# Altium footprint library fuelCell_PCB.PcbLib: 9 footprints
Each footprint in its own frame and in the unit in brackets; x right, y up, seen from the top. Pads: shape width x height; smd on the part's side, far side on the other; paste and mask are expansions set on the pad; w line width, h text height; cw(c..) or ccw(c..) is an arc to the next point about the centre after c.
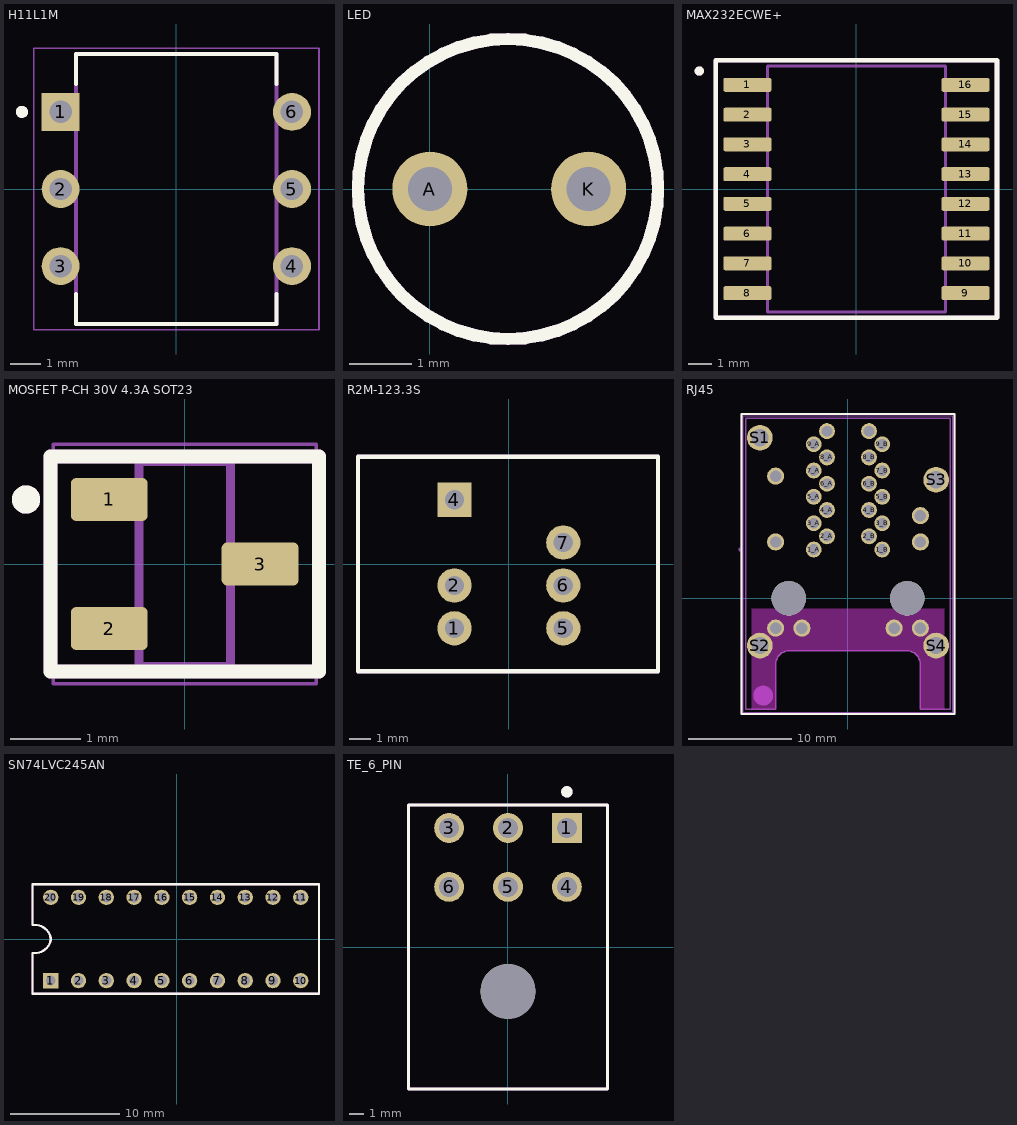
[diagram p0: the footprints below, top view; thin cyan lines are the x and y axes]

## H11L1M [mm]
pads (6):
  rect 1.248x1.248 hole 0.74: 1(-3.81,2.54)
  round 1.248 hole 0.74: 2(-3.81,0) 3(-3.81,-2.54) 4(3.81,-2.54) 5(3.81,0) 6(3.81,2.54)
Top Overlay:
  circle w0.2: c-5.08,2.54 r0.1
  circle w0.2: c-5.08,2.54 r0.1
  lines w0.127: -3.3,-4.45 -3.3,-3.45 -3.3,-4.45 ; -3.3,-4.45 3.3,-4.45 ; -3.3,-4.45 3.3,-4.45 ; -3.3,4.45 -3.3,3.45 -3.3,4.45 ; -3.3,4.45 3.3,4.45 ; -3.3,4.45 3.3,4.45 ; 3.3,-4.45 3.3,-3.45 3.3,-4.45 ; 3.3,4.45 3.3,3.45 3.3,4.45
Top Assembly:
  circle w0.2: c-5.08,2.54 r0.1
  circle w0.2: c-5.08,2.54 r0.1
  lines w0.127: -3.3,-4.45 -3.3,-3.45 -3.3,-4.45 ; -3.3,-4.45 3.3,-4.45 ; -3.3,-4.45 3.3,-4.45 ; -3.3,4.45 -3.3,3.45 -3.3,4.45 ; -3.3,4.45 3.3,4.45 ; -3.3,4.45 3.3,4.45 ; 3.3,-4.45 3.3,-3.45 3.3,-4.45 ; 3.3,4.45 3.3,3.45 3.3,4.45
  text ".Designator" at -5.998,-0.4 h1.2
Mechanical 13:
  lines w0.127: -3.3,-4.45 -3.3,4.45 3.3,4.45 3.3,-4.45 -3.3,-4.45
Mechanical 15:
  lines w0.05: -4.7,-4.63 4.7,-4.63 4.7,4.63 -4.7,4.63 -4.7,-4.63
3D body "step_temp.STEP": height 5.08, standoff -3.81, extent -3.935,-4.255 3.935,4.255

## LED [mm]
pads (2):
  round 1.2 hole 0.7: A(0,0) K(2.54,0)
Top Overlay:
  circle w0.2: c1.25,0 r2.401
Mechanical 1:
  circle w0.1: c1.25,0 r2.401
Top Assembly:
  circle w0.2: c1.25,0 r2.401
  text ".Designator" at -4.748,-0.4 h1.2

## MAX232ECWE+ [mm]
pads (16):
  rrect25% 2.05x0.59 smd: 1(-4.655,4.445) 2(-4.655,3.175) 3(-4.655,1.905) 4(-4.655,0.635) 5(-4.655,-0.635) 6(-4.655,-1.905) 7(-4.655,-3.175) 8(-4.655,-4.445) 9(4.655,-4.445) 10(4.655,-3.175) 11(4.655,-1.905) 12(4.655,-0.635) 13(4.655,0.635) 14(4.655,1.905) 15(4.655,3.175) 16(4.655,4.445)
Top Overlay:
  circle w0.2: c-6.705,5.035 r0.1
  lines w0.2: -6,-5.5 6,-5.5 6,5.5 -6,5.5 -6,-5.5
Top Assembly:
  circle w0.2: c-6.705,5.035 r0.1
  lines w0.2: -6,-5.5 6,-5.5 6,5.5 -6,5.5 -6,-5.5
  text ".Designator" at -7.498,-0.5 h1.5
Mechanical 13:
  circle w0.2: c-6.705,5.035 r0.1
  lines w0.127: -3.8,-5.25 -3.8,5.25 3.8,5.25 3.8,-5.25 -3.8,-5.25
3D body "MAX232ECWE+.STEP": height 2.65, standoff 0, extent -5.162,-5.15 5.162,5.15

## MOSFET P-CH 30V 4.3A SOT23 [mm]
pads (3):
  rrect25% 1.09x0.61 smd: 1(-1.07,0.915) 2(-1.07,-0.915) 3(1.07,0)
Top Overlay:
  circle w0.2: c-2.25,0.915 r0.1
  lines w0.2: -1.905,-1.524 1.905,-1.524 1.905,1.524 0.953,1.524 -1.905,1.524 -1.905,-1.524
Top Assembly:
  circle w0.2: c-2.25,0.915 r0.1
  lines w0.2: -1.905,-1.524 1.905,-1.524 1.905,1.524 0.953,1.524 -1.905,1.524 -1.905,-1.524
  text ".Designator" at -5.998,-0.4 h1.2
Mechanical 13:
  circle w0.2: c-2.25,0.915 r0.1
  lines w0.127: -0.65,-1.45 -0.65,1.45 0.65,1.45 0.65,-1.45 -0.65,-1.45
Mechanical 15:
  lines w0.05: -1.865,-1.7 1.865,-1.7 1.865,1.7 -1.865,1.7 -1.865,-1.7
3D body "DIODE3_DESD1CAN2SOQ-7_DIO.step": height 1.08, standoff -0.01, extent -1.25,-1.499 1.25,1.499

## PCBComponent_1 [mm]

## R2M-123.3S [mm]
pads (6):
  round 1.6 hole 0.9: 1(-2.54,-3) 2(-2.54,-1) 5(2.54,-3) 6(2.54,-1) 7(2.54,1)
  rect 1.6x1.6 hole 0.9: 4(-2.54,3)
Top Overlay:
  lines w0.2: -7.04,-5 6.96,-5 6.96,5 -7.04,5 -7.04,-5
Top Assembly:
  lines w0.2: -7.04,-5 6.96,-5 6.96,5 -7.04,5 -7.04,-5
  text ".Designator" at -7.997,-0.533 h1.6
3D body "R2M-123.3S--3DModel-STEP-1.STEP": height 9.91, standoff -4.77, extent -6.6,-4.5 6.6,4.6

## RJ45 [mm]
pads (34):
  round 1.53 hole 1.02: 1_A(-3.3,4.7) 1_B(3.3,4.7) 2_A(-2.03,5.97) 2_B(2.03,5.97) 3_A(-3.3,7.24) 3_B(3.3,7.24) 4_A(-2.03,8.51) 4_B(2.03,8.51) 5_A(-3.3,9.78) 5_B(3.3,9.78) 6_A(-2.03,11.05) 6_B(2.03,11.05) 7_A(-3.3,12.32) 7_B(3.3,12.32) 8_A(-2.03,13.59) 8_B(2.03,13.59) 9_A(-3.3,14.86) 9_B(3.3,14.86) 10_A(-2.03,16.13) 10_B(2.03,16.13)
  round 1.65 hole 1.1: B11_A(-6.985,-2.89) B12_A(-4.445,-2.89) B13_A(4.445,-2.89) B14_A(6.985,-2.89) T11_B(-6.985,11.78) T12_B(-6.985,5.43) T13_B(6.985,7.97) T14_B(6.985,5.43)
  round 2.475 hole 1.65: S1(-8.505,15.49) S2(-8.505,-4.57) S3(8.505,11.43) S4(8.505,-4.57)
  round 3.33 hole 3.33 unplated: ""(-5.715,0) ""(5.715,0)
Top Overlay:
  lines w0.2: -10.287,-11.176 10.287,-11.176 10.287,17.78 -10.287,17.78 -10.287,-11.176
Keep-Out Layer:
  region: 9.295,-10.74 6.965,-10.74 6.965,-6.35 6.963,-6.284 6.958,-6.217 6.949,-6.151 6.937,-6.086 6.922,-6.021 6.903,-5.958 6.881,-5.895 6.855,-5.833 6.827,-5.773 6.795,-5.715 6.76,-5.658 6.722,-5.604 6.682,-5.551 6.639,-5.5 6.593,-5.452 6.545,-5.406 6.494,-5.363 6.441,-5.323 6.387,-5.285 6.33,-5.25 6.272,-5.218 6.212,-5.19 6.15,-5.164 6.087,-5.142 6.024,-5.123 5.959,-5.108 5.894,-5.096 5.828,-5.087 5.761,-5.082 5.695,-5.08 -5.695,-5.08 -5.761,-5.082 -5.828,-5.087 -5.894,-5.096 -5.959,-5.108 -6.024,-5.123 -6.087,-5.142 -6.15,-5.164 -6.212,-5.19 -6.272,-5.218 -6.33,-5.25 -6.387,-5.285 -6.441,-5.323 -6.494,-5.363 -6.545,-5.406 -6.593,-5.452 -6.639,-5.5 -6.682,-5.551 -6.722,-5.604 -6.76,-5.658 -6.795,-5.715 -6.827,-5.773 -6.855,-5.833 -6.881,-5.895 -6.903,-5.958 -6.922,-6.021 -6.937,-6.086 -6.949,-6.151 -6.958,-6.217 -6.963,-6.284 -6.965,-6.35 -6.965,-10.74 -9.295,-10.74 -9.295,-1 9.295,-1
  region: 9.295,-10.74 6.965,-10.74 6.965,-6.35 6.963,-6.284 6.958,-6.217 6.949,-6.151 6.937,-6.086 6.922,-6.021 6.903,-5.958 6.881,-5.895 6.855,-5.833 6.827,-5.773 6.795,-5.715 6.76,-5.658 6.722,-5.604 6.682,-5.551 6.639,-5.5 6.593,-5.452 6.545,-5.406 6.494,-5.363 6.441,-5.323 6.387,-5.285 6.33,-5.25 6.272,-5.218 6.212,-5.19 6.15,-5.164 6.087,-5.142 6.024,-5.123 5.959,-5.108 5.894,-5.096 5.828,-5.087 5.761,-5.082 5.695,-5.08 -5.695,-5.08 -5.761,-5.082 -5.828,-5.087 -5.894,-5.096 -5.959,-5.108 -6.024,-5.123 -6.087,-5.142 -6.15,-5.164 -6.212,-5.19 -6.272,-5.218 -6.33,-5.25 -6.387,-5.285 -6.441,-5.323 -6.494,-5.363 -6.545,-5.406 -6.593,-5.452 -6.639,-5.5 -6.682,-5.551 -6.722,-5.604 -6.76,-5.658 -6.795,-5.715 -6.827,-5.773 -6.855,-5.833 -6.881,-5.895 -6.903,-5.958 -6.922,-6.021 -6.937,-6.086 -6.949,-6.151 -6.958,-6.217 -6.963,-6.284 -6.965,-6.35 -6.965,-10.74 -9.295,-10.74 -9.295,-1 9.295,-1
Mechanical 1:
  lines w0: -9.88,-10.74 -6.965,-10.74 -6.965,-6.35 cw(c-5.695,-6.35) -5.695,-5.08 5.695,-5.08 cw(c5.695,-6.35) 6.965,-6.35 6.965,-10.74 9.88,-10.74
Top Assembly:
  circle w1.5: c-8.182,-9.398 r0.2
  lines w0.2: -10.287,-11.176 10.287,-11.176 10.287,17.78 -10.287,17.78 -10.287,-11.176
  text ".Designator" at -5.998,-0.4 h1.2
Mechanical 13:
  circle w0.2: c-10.38,4.7 r0.1
  lines w0.127: -9.88,-10.74 -9.88,17.38 9.88,17.38 9.88,-10.74 6.965,-10.74 6.965,-6.35 ccw(c5.695,-6.35) 5.695,-5.08 -5.695,-5.08 ccw(c-5.695,-6.35) -6.965,-6.35 -6.965,-10.74 -9.88,-10.74
Mechanical 15:
  lines w0.05: -10.13,-10.99 -10.13,17.63 10.13,17.63 10.13,-10.99 -10.13,-10.99
3D body "1840855-3--3DModel-STEP-56544.STEP": height 26.4, standoff -4.43, extent -9.879,-11.176 9.879,17.694

## SN74LVC245AN [mm]
pads (20):
  rect 1.4x1.4 hole 0.9: 1(-11.53,-3.8)
  round 1.4 hole 0.9: 2(-8.99,-3.8) 3(-6.45,-3.8) 4(-3.91,-3.8) 5(-1.37,-3.8) 6(1.17,-3.8) 7(3.71,-3.8) 8(6.25,-3.8) 9(8.79,-3.8) 10(11.33,-3.8) 11(11.33,3.82) 12(8.79,3.82) 13(6.25,3.82) 14(3.71,3.82) 15(1.17,3.82) 16(-1.37,3.82) 17(-3.91,3.82) 18(-6.45,3.82) 19(-8.99,3.82) 20(-11.53,3.82)
Top Overlay:
  lines w0.2: -13.204,-1.26 ccw(c-12.975,0.185) -11.531,-0.044 ; -13.204,1.279 cw(c-12.975,-0.165) -11.531,0.063 ; -13.2,-1.26 -13.2,-4.99 13,-4.99 13,5.01 -13.2,5.01 -13.2,1.28
Top Assembly:
  lines w0.2: -13.204,-1.26 ccw(c-12.975,0.185) -11.531,-0.044 ; -13.204,1.279 cw(c-12.975,-0.165) -11.531,0.063 ; -13.2,-1.26 -13.2,-4.99 13,-4.99 13,5.01 -13.2,5.01 -13.2,1.28
  text ".Designator" at -7.997,-0.533 h1.6
3D body "SN74LVC245AN.STEP": height 5.08, standoff -3.17, extent -12.7,-3.937 12.7,3.937

## TE_6_PIN [mm]
pads (7):
  rect 2.1x2.1 hole 1.4: 1(4.141,8.377)
  round 2.1 hole 1.4: 2(0.001,8.377) 3(-4.139,8.377) 4(4.141,4.237) 5(0.001,4.237) 6(-4.139,4.237)
  round 3.86 hole 3.86 unplated: ""(0.001,-3.103)
Top Overlay:
  circle w0.4: c4.141,10.917 r0.2
  lines w0.2: -6.999,-9.963 -6.999,10 7.001,10 7.001,-9.963 -6.999,-9.963
Top Assembly:
  circle w0.4: c4.141,10.917 r0.2
  lines w0.2: -6.999,-9.963 -6.999,10 7.001,10 7.001,-9.963 -6.999,-9.963
  text ".Designator" at -7.997,-0.533 h1.6
3D body "1-770969-0.stp": height 11.11, standoff -5.98, extent -6.995,-9.92 7,8.92